# EAGLE library part M16X1 (library Connectors)
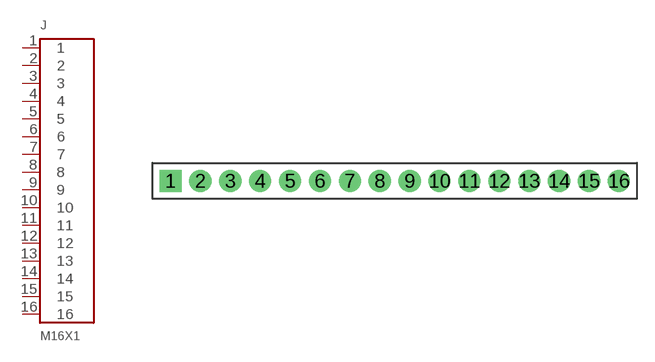
[diagram p2: symbol with the pads of M16X1; footprint M16X1]

Designator prefix J

## M16X1  [M16X1]
1  1
2  2
3  3
4  4
5  5
6  6
7  7
8  8
9  9
10  10
11  11
12  12
13  13
14  14
15  15
16  16

## Footprint M16X1 (pad centres in mm)
drill 1.016 pad 1.88 square: 1 -19.05,0
drill 1.016 pad 1.88: 2 -16.51,0; 3 -13.97,0; 4 -11.43,0; 5 -8.89,0; 6 -6.35,0; 7 -3.81,0; 8 -1.27,0; 9 1.27,0; 10 3.81,0; 11 6.35,0; 12 8.89,0; 13 11.43,0; 14 13.97,0; 15 16.51,0; 16 19.05,0